# Altium schematic symbol library Schlib1.SchLib: 1 symbol
Pins are listed as number, name and electrical type; pins without a type are passive.

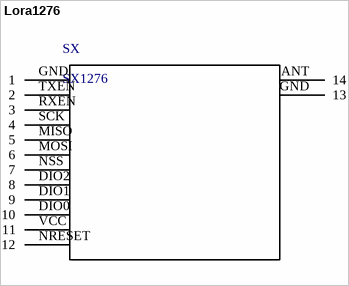
[diagram p0: symbol Lora1276]

## Lora1276
designator SX, comment SX1276
G-NICERF 1276
footprint PCBComponent_1
pins: ANT 14, DIO0 10, DIO1 9, DIO2 8, GND 1, GND 13, MISO 5, MOSI 6, NRESET 12, NSS 7, RXEN 3, SCK 4, TXEN 2, VCC 11